# Altium footprint library X977T04.PcbLib: 1 footprints
Each footprint in its own frame and in the unit in brackets; x right, y up, seen from the top. Pads: shape width x height; smd on the part's side, far side on the other; paste and mask are expansions set on the pad; w line width, h text height; cw(c..) or ccw(c..) is an arc to the next point about the centre after c.
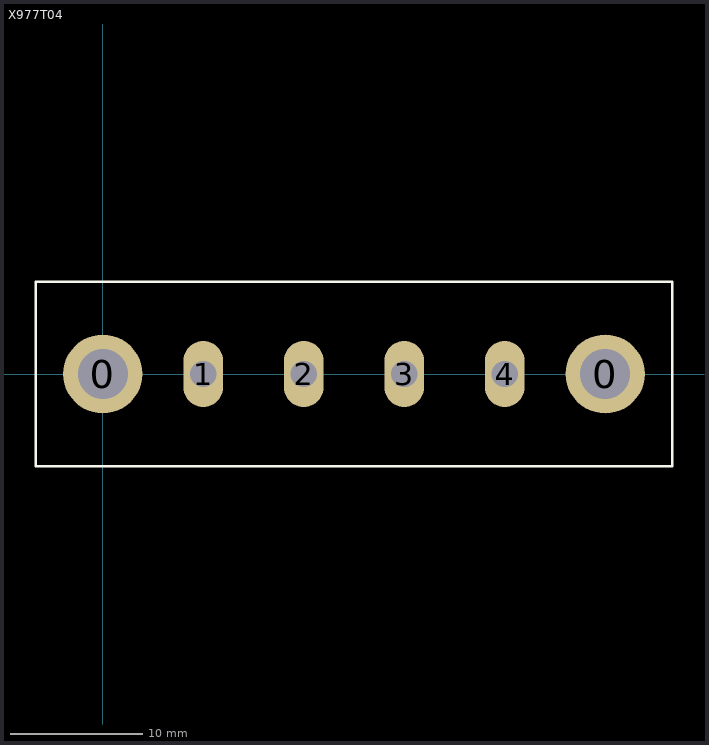
[diagram p0: the footprint, top view; thin cyan lines are the x and y axes]

## X977T04 [mm]
pads (6):
  round 6 hole 3.8: 0(0,0) 0(38.1,0)
  oval 3x5 hole 2: 1(7.62,0) 2(15.24,0) 3(22.86,0) 4(30.48,0)
Top Overlay:
  lines w0.2: -5.08,-6.985 43.18,-6.985 43.18,6.985 -5.08,6.985 -5.08,-6.985
3D body "X977T04.STEP": height 14.8, standoff -3.78, extent -4.58,-6.731 42.672,6.769